# Altium footprint library PCB1_1.PcbLib: 20 footprints (part 1 of 2)
Each footprint in its own frame and in the unit in brackets; x right, y up, seen from the top. Pads: shape width x height; smd on the part's side, far side on the other; paste and mask are expansions set on the pad; w line width, h text height; cw(c..) or ccw(c..) is an arc to the next point about the centre after c.
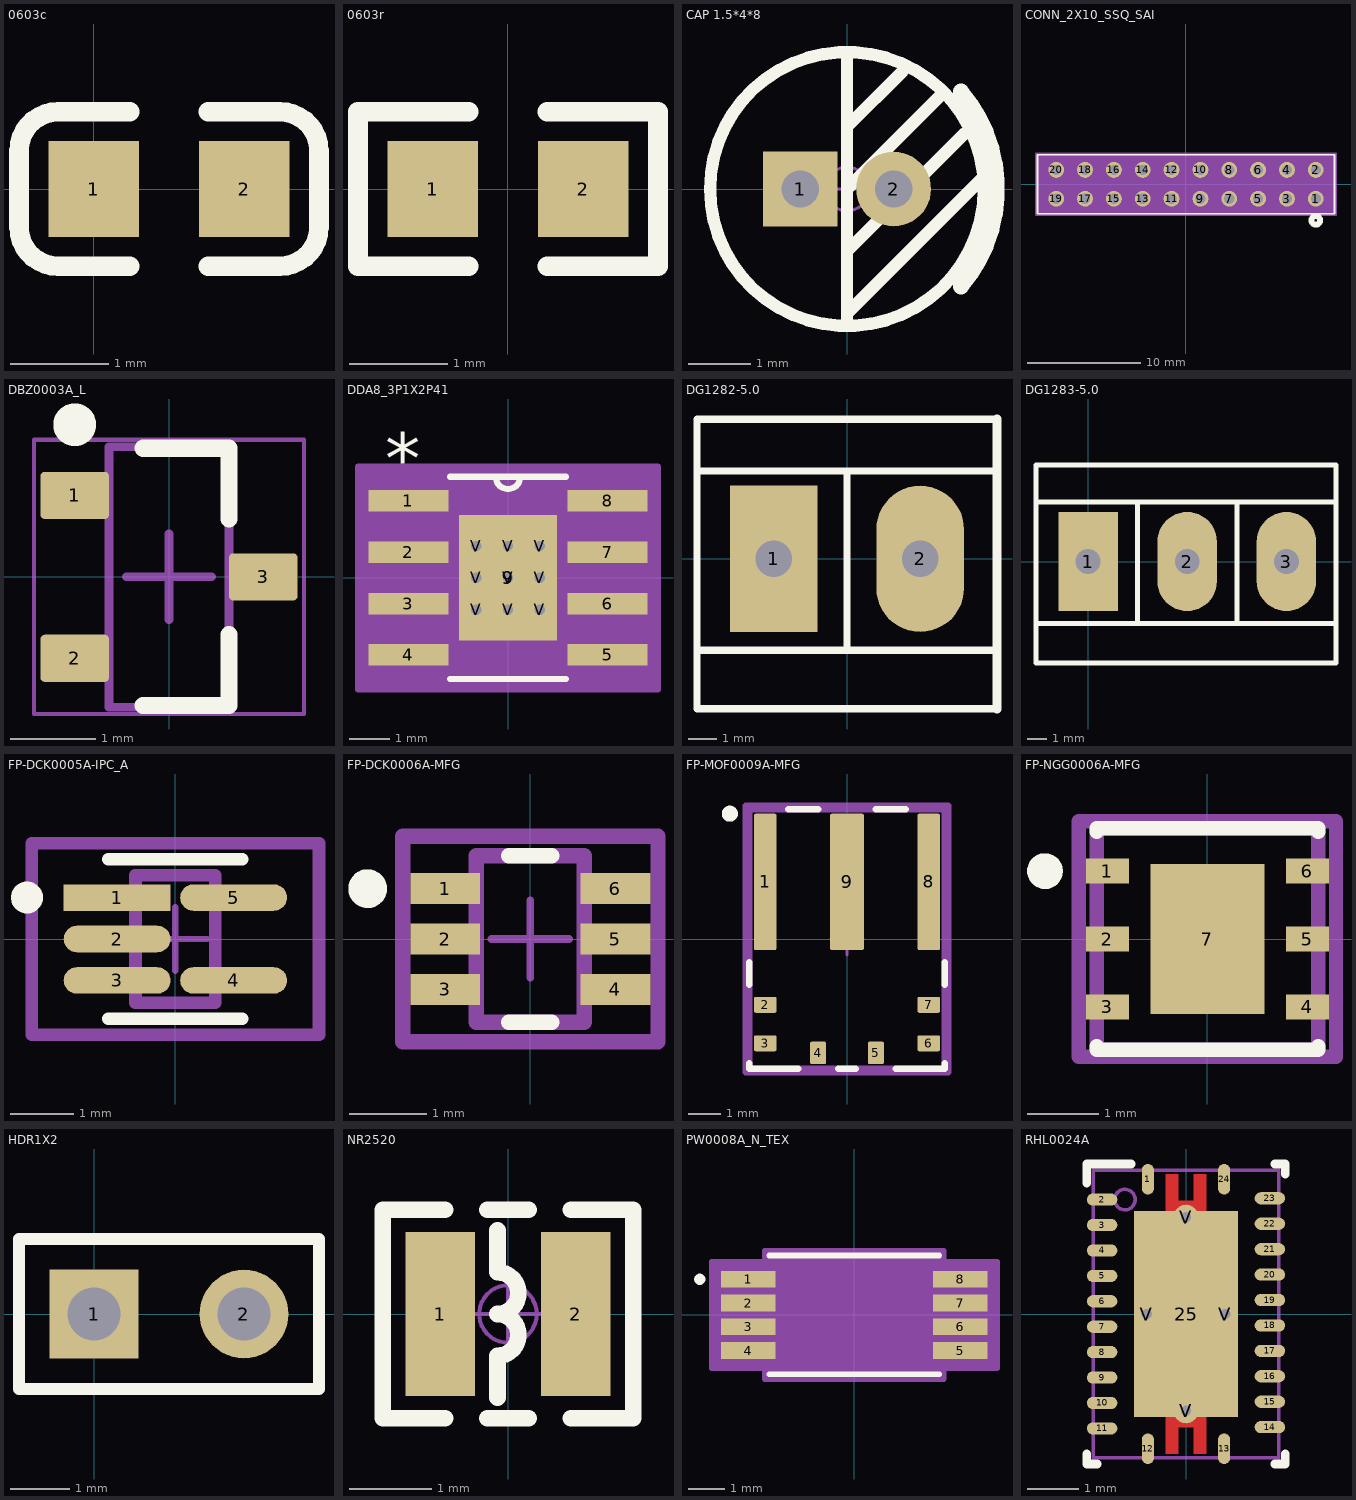
[diagram p0: the footprints below, top view; thin cyan lines are the x and y axes]

## 0603c [mm]
height 0.5
pads (2):
  rect 0.93x0.98 smd: 1(0,0) 2(1.54,0)
Top Overlay:
  lines w0.2: 0.37,-0.79 -0.365,-0.79 cw(c-0.365,-0.39) -0.765,-0.39 -0.765,0.39 cw(c-0.365,0.39) -0.365,0.79 0.37,0.79 ; 1.17,-0.79 1.905,-0.79 ccw(c1.905,-0.39) 2.305,-0.39 2.305,0.39 ccw(c1.905,0.39) 1.905,0.79 1.17,0.79
3D body: height 0.3, standoff 0, extent -0.03,-0.4 1.57,0.4

## 0603r [mm]
height 15
pads (2):
  rect 0.93x0.98 smd: 1(-0.77,0) 2(0.77,0)
Top Overlay:
  lines w0.2: -0.4,-0.79 -1.535,-0.79 -1.535,0.79 -0.4,0.79 ; 0.4,-0.79 1.535,-0.79 1.535,0.79 0.4,0.79
3D body "User Library-RES_1609-0603.STEP": height 0.56, standoff 0, extent -0.85,-0.4 0.85,0.4

## CAP 1.5*4*8 [mm] "脚距1.5mm直径4mm高度8mm                    淘宝ID:黄晶宝石"
pads (2):
  rect 1.2x1.2 hole 0.6: 1(-0.75,0)
  round 1.2 hole 0.6: 2(0.75,0)
Top Overlay:
  circle w0.2: c0,0 r2.2
  lines w0.2: 0,-2.159 0,-2 ; 0,-1 1.897,0.897 ; 0,0 1.524,1.524 ; 0,1 0.897,1.897 ; 0,2.159 0,-2 ; 2.207,0.206 0,-2
  lines w0.254: 1.83,-1.568 ccw(c0,0) 1.83,1.568
Mechanical 15:
  circle w0.05: c0,0 r0.35
  lines w0.05: -0.5,0 0.5,0 ; 0,-0.5 0,0.5
3D body "CAP 1.5X4X8.STEP": height 8.04, standoff -3.46, extent -2,-1.999 2.02,1.999

## CONN_2X10_SSQ_SAI [mil]
pads (20):
  round 55 / inner round 60 / far side round 55 hole 35 paste-99999 mask+0: 1(450,-50) 2(450,50) 3(350,-50) 4(350,50) 5(250,-50) 6(250,50) 7(150,-50) 8(150,50) 9(50,-50) 10(50,50) 11(-50,-50) 12(-50,50) 13(-150,-50) 14(-150,50) 15(-250,-50) 16(-250,50) 17(-350,-50) 18(-350,50) 19(-450,-50) 20(-450,50)
Top Overlay:
  circle w20: c450,-125 r15
  lines w6: -515,-102.5 -515,102.5 515,102.5 515,-102.5 -515,-102.5
Bottom Overlay:
  circle w20: c450,-125 r15
Mechanical 13:
  circle w0: c450,-50 r10
  lines w1: -510,-97.5 -510,97.5 510,97.5 510,-97.5 -510,-97.5
Mechanical 15:
  region: 520,107.5 487.5,107.5 -487.5,107.5 -520,107.5 -520,-107.5 -487.5,-107.5 487.5,-107.5 520,-107.5
  lines w6: -520,-107.5 -487.5,-107.5 487.5,-107.5 520,-107.5 520,107.5 487.5,107.5 -487.5,107.5 -520,107.5 -520,-107.5

## DBZ0003A_L [mm] "SOT23, 3-Leads, Body 3.04x1.4mm, Pitch 0.95mm, IPC High Density"
height 1.12
pads (3):
  rrect18% 0.8x0.55 smd: 1(-1.1,0.95) 2(-1.1,-0.95) 3(1.1,0)
Top Overlay:
  circle w0.25: c-1.1,1.775 r0.125
  lines w0.2: -0.3,-1.5 0.7,-1.5 0.7,-0.675 ; -0.3,1.5 0.7,1.5 0.7,0.675
Mechanical 1:
  text ".Designator" at -0.508,-0.127 h0.35
Mechanical 13:
  lines w0.1: -0.7,-1.52 0.7,-1.52 0.7,1.52 -0.7,1.52 -0.7,-1.52
Mechanical 15:
  lines w0.05: -1.575,-1.6 1.575,-1.6 1.575,1.6 -1.575,1.6 -1.575,-1.6
  lines w0.1: -0.5,0 0.5,0 ; 0,-0.5 0,0.5
3D body "DBZ0003AakaMF03A.stp": height 0.96, standoff -0.02, extent -1.257,-1.461 1.257,1.46

## DDA8_3P1X2P41 [mil]
height 19.68
pads (18):
  rect 78x21 smd paste-39 mask-39: 1(-97,75) 2(-97,25) 3(-97,-25) 4(-97,-75) 5(97,-75) 6(97,-25) 7(97,25) 8(97,75)
  rect 95x122 smd paste-60.5 mask-60.5: 9(0,0)
  round 20 / inner round 60 / far side round 20 hole 10 paste-99999 mask-10: V(-31,-31) V(-31,0) V(-31,31) V(0,-31) V(0,0) V(0,31) V(31,-31) V(31,0) V(31,31)
Top Overlay:
  lines w6: -56.38,-98.5 56.38,-98.5 ; -56.38,98.5 56.38,98.5 ; -12,98.5 ccw(c0,98.5) 12,98.5
  text "*" at -119.5,91 h50
Top Paste:
  drawing of 16 lines, arcs and shapes, not listed
Top Solder:
  region: 38.87,-63.5 38.87,63.5 50,63.5 50,-63.5
  region: 23.13,-63.5 23.13,63.5 7.87,63.5 7.87,-63.5
  region: -7.87,-63.5 -7.87,63.5 -23.13,63.5 -23.13,-63.5
  region: -50,-63.5 -50,63.5 -38.87,63.5 -38.87,-63.5
  region: -50,-63.5 -50,-38.87 50,-38.87 50,-63.5
  region: -50,-23.13 -50,-7.87 50,-7.87 50,-23.13
  region: -50,7.87 -50,23.13 50,23.13 50,7.87
  region: -50,38.87 -50,63.5 50,63.5 50,38.87
Mechanical 13:
  lines w0: -12,98.5 ccw(c0,98.5) 12,98.5
  lines w1: -122,-84.5 -79,-84.5 -79,-65.5 -122,-65.5 -122,-84.5 ; -122,-34.5 -79,-34.5 -79,-15.5 -122,-15.5 -122,-34.5 ; -122,15.5 -79,15.5 -79,34.5 -122,34.5 -122,15.5 ; -122,65.5 -79,65.5 -79,84.5 -122,84.5 -122,65.5 ; -79,-98.5 -79,98.5 79,98.5 79,-98.5 -79,-98.5 ; 79,-84.5 122,-84.5 122,-65.5 79,-65.5 79,-84.5 ; 79,-34.5 122,-34.5 122,-15.5 79,-15.5 79,-34.5 ; 79,15.5 122,15.5 122,34.5 79,34.5 79,15.5 ; 79,65.5 122,65.5 122,84.5 79,84.5 79,65.5
  text "*" at -119.5,91 h50
Mechanical 15:
  region: 146,-108.5 -146,-108.5 -146,108.5 146,108.5
  lines w6: -146,-108.5 146,-108.5 146,108.5 -146,108.5 -146,-108.5
3D body "DDA8_3P1X2P41.step": height 67.09, standoff 0, extent -122.01,-98.5 122.01,98.5

## DG1282-5.0 [mil]
height 19.68
pads (2):
  rect 120x200 hole 50: 1(-100,0)
  oval 120x200 hole 50: 2(100,0)
Top Overlay:
  lines w10: -205,-203 -205,-205 205,-205 ; -205,-200 -205,191 205,191 ; -205,-125 205,-125 ; -205,120 205,120 ; 0,-124 0,120
  lines w12: 205,-205 205,191

## DG1283-5.0 [mil]
height 19.68
pads (3):
  rect 120x200 hole 50: 1(0,0)
  oval 120x200 hole 50: 2(200,0) 3(400,0)
Top Overlay:
  lines w10: -105,-203 -105,-205 500,-205 500,195 -105,195 ; -105,-200 -105,191 ; -105,-125 500,-125 ; -105,120 500,120 ; 100,-124 100,120 ; 300,-125 300,120

## FP-DCK0005A-IPC_A [mm]
height 0.5
pads (5):
  rect 1.677x0.416 smd paste+0 mask+0: 1(-0.914,0.65)
  rrect100% 1.677x0.416 smd paste+0 mask+0: 2(-0.914,0) 3(-0.914,-0.65) 4(0.914,-0.65) 5(0.914,0.65)
Top Overlay:
  circle w0.25: c-2.327,0.65 r0.125
  lines w0.2: -1.05,-1.25 1.05,-1.25 ; -1.05,1.25 1.05,1.25
Top 3D Body:
  lines w0.2: -0.625,-1 -0.625,1 0.625,1 0.625,-1 -0.625,-1
Top Courtyard:
  lines w0.2: -2.252,-1.5 -2.252,1.5 2.252,1.5 2.252,-1.5 -2.252,-1.5
Top Assembly:
  lines w0.2: -2.252,-1.5 -2.252,1.5 2.252,1.5 2.252,-1.5 -2.252,-1.5
  text ".Designator" at 0,0.188 h1
Top Component Center:
  lines w0.1: -0.5,0 0.5,0 ; 0,-0.5 0,0.5

## FP-DCK0006A-MFG [mm]
height 0.5
pads (6):
  rect 0.9x0.4 smd paste-1000 mask+0: 1(-1.1,0.65) 2(-1.1,0) 3(-1.1,-0.65) 4(1.1,-0.65) 5(1.1,0) 6(1.1,0.65)
Top Overlay:
  circle w0.25: c-2.1,0.65 r0.125
  lines w0.2: -0.275,-1.075 0.275,-1.075 ; -0.275,1.075 0.275,1.075
Top Paste:
  rectangle: 0.675,-0.825 1.525,-0.475
  rectangle: 0.675,-0.175 1.525,0.175
  rectangle: 0.675,0.475 1.525,0.825
  rectangle: -1.525,-0.825 -0.675,-0.475
  rectangle: -1.525,-0.175 -0.675,0.175
  rectangle: -1.525,0.475 -0.675,0.825
Top 3D Body:
  lines w0.2: -0.7,-1.075 -0.7,1.075 0.7,1.075 0.7,-1.075 -0.7,-1.075
Top Courtyard:
  lines w0.2: -1.65,-1.325 -1.65,1.325 1.65,1.325 1.65,-1.325 -1.65,-1.325
Top Assembly:
  lines w0.2: -1.65,-1.325 -1.65,1.325 1.65,1.325 1.65,-1.325 -1.65,-1.325
  text ".Designator" at 0,0.188 h1
Top Component Center:
  lines w0.1: -0.5,0 0.5,0 ; 0,-0.5 0,0.5
3D body "IC_Texas_Instruments_INA213AIDCKR_eec.STEP": height 0.25, standoff 0, extent -1.65,-1.325 1.65,1.325

## FP-MOF0009A-MFG [mm]
height 0.5
pads (9):
  rrect14% 0.7x4.25 smd paste-1000 mask+0: 1(-2.55,1.78) 8(2.55,1.78)
  rrect20% 0.7x0.5 smd paste+0 mask+0: 2(-2.55,-2.05) 3(-2.55,-3.25) 6(2.55,-3.25) 7(2.55,-2.05)
  rrect20% 0.5x0.7 smd paste+0 mask+0: 4(-0.9,-3.55) 5(0.9,-3.55)
  rrect10% 1.05x4.25 smd paste-1000 mask+0: 9(0,1.78)
Top Overlay:
  circle w0.25: c-3.65,3.905 r0.125
  lines w0.2: -3.05,-3.875 -3.05,-4.05 -1.525,-4.05 ; -3.05,-1.425 -3.05,-0.72 ; -1.825,4.05 -0.9,4.05 ; -0.275,-4.05 0.275,-4.05 ; 0.9,4.05 1.825,4.05 ; 1.525,-4.05 3.05,-4.05 3.05,-3.875 ; 3.05,-1.425 3.05,-0.72
Top Paste:
  drawing of 15 lines, arcs and shapes, not listed
Top 3D Body:
  lines w0.2: -3.05,-4.05 -3.05,4.05 3.05,4.05 3.05,-4.05 -3.05,-4.05
Top Courtyard:
  lines w0.2: -3.15,-4.15 -3.15,4.15 3.15,4.15 3.15,-4.15 -3.15,-4.15
Top Assembly:
  lines w0.2: -3.15,-4.15 -3.15,4.15 3.15,4.15 3.15,-4.15 -3.15,-4.15
  text ".Designator" at 0,0.188 h1
Top Component Center:
  lines w0.1: -0.5,0 0.5,0 ; 0,-0.5 0,0.5
3D body "IC_Texas_Instruments_LMG5200MOFT_eec.STEP": height 2, standoff 0, extent -3,-4 3,4

## FP-NGG0006A-MFG [mm]
height 0.5
pads (7):
  rect 0.6x0.35 smd paste+0 mask+0: 1(-1.4,0.95) 2(-1.4,0) 3(-1.4,-0.95) 4(1.4,-0.95) 5(1.4,0) 6(1.4,0.95)
  rect 1.6x2.1 smd paste+0 mask+0: 7(0,0)
Top Overlay:
  circle w0.25: c-2.275,0.95 r0.125
  lines w0.2: -1.55,-1.5 -1.55,-1.55 1.55,-1.55 1.55,-1.5 ; -1.55,1.5 -1.55,1.55 1.55,1.55 1.55,1.5
Top 3D Body:
  lines w0.2: -1.55,-1.55 -1.55,1.55 1.55,1.55 1.55,-1.55 -1.55,-1.55
Top Courtyard:
  lines w0.2: -1.8,-1.65 -1.8,1.65 1.8,1.65 1.8,-1.65 -1.8,-1.65
Top Assembly:
  lines w0.2: -1.8,-1.65 -1.8,1.65 1.8,1.65 1.8,-1.65 -1.8,-1.65
  text ".Designator" at 0,0.188 h1
Top Component Center:
  lines w0.1: -0.5,0 0.5,0 ; 0,-0.5 0,0.5
3D body "IC_Texas_Instruments_LP38691SD-3_3-NOPB_eec.STEP": height 0.25, standoff 0, extent -1.8,-1.65 1.8,1.65

## HDR1X2 [mm] "Connector; Header; 2 Position"
height 0.5
pads (2):
  rect 1.5x1.5 hole 0.9: 1(0,0)
  round 1.5 hole 0.9: 2(2.54,0)
Top Overlay:
  lines w0.2: -1.27,-1.27 -1.27,1.27 3.81,1.27 3.81,-1.27 -1.27,-1.27

## NR2520 [mm] "2.5mm*2.0mm*1.0mm(长*宽*高）"
height 0.5
pads (2):
  rect 0.85x2 smd: 1(-0.825,0) 2(0.825,0)
Top Overlay:
  lines w0.203: -0.762,-1.27 -1.524,-1.27 -1.524,1.27 -0.762,1.27 ; -0.254,-1.27 0.254,-1.27 ; -0.254,1.27 0.254,1.27 ; -0.127,-1.016 -0.127,-0.508 ccw(c-0.127,-0.254) -0.127,0 ccw(c-0.127,0.254) -0.127,0.508 -0.127,1.016 ; 0.762,-1.27 1.524,-1.27 1.524,1.27 0.762,1.27
Mechanical 15:
  circle w0.05: c0,0 r0.35
  lines w0.05: -0.5,0 0.5,0 ; 0,-0.5 0,0.5
3D body "NR2520.STEP": height 1.1, standoff 0, extent -1.25,-1 1.25,1

## PW0008A_N_TEX [mm]
height 0.5
pads (8):
  rect 1.499x0.457 smd paste+0 mask+0.051: 1(-2.9,0.975) 2(-2.9,0.325) 3(-2.9,-0.325) 4(-2.9,-0.975) 5(2.9,-0.975) 6(2.9,-0.325) 7(2.9,0.325) 8(2.9,0.975)
Top Overlay:
  circle w0.152: c-4.228,0.975 r0.076
  lines w0.152: -2.324,-1.626 2.324,-1.626 ; -2.324,1.626 2.324,1.626
Mechanical 13:
  circle w0: c-1.943,0.975 r0.076
  lines w0: -0.305,1.499 ccw(c0,1.499) 0.305,1.499
  lines w0.025: -2.197,-1.499 2.197,-1.499 2.197,1.499 -2.197,1.499 -2.197,-1.499
Mechanical 15:
  region: -2.451,-1.458 -3.903,-1.458 -3.903,1.458 -2.451,1.458 -2.451,1.753 2.451,1.753 2.451,1.458 3.903,1.458 3.903,-1.458 2.451,-1.458 2.451,-1.753 -2.451,-1.753
  lines w0.152: -3.903,-1.458 -3.903,1.458 -2.451,1.458 -2.451,1.753 2.451,1.753 2.451,1.458 3.903,1.458 3.903,-1.458 2.451,-1.458 2.451,-1.753 -2.451,-1.753 -2.451,-1.458 -3.903,-1.458
3D body "PW0008A_N_TEX.step": height 1.19, standoff 0, extent -3.299,-1.499 3.299,1.499

## RHL0024A [mm]
height 0.5
pads (29):
  oval 0.24x0.6 smd paste-0.102 mask+0.051: 1(-0.75,2.65) 12(-0.75,-2.65) 13(0.75,-2.65) 24(0.75,2.65)
  oval 0.6x0.24 smd paste-0.102 mask+0.051: 2(-1.65,2.25) 3(-1.65,1.75) 4(-1.65,1.25) 5(-1.65,0.75) 6(-1.65,0.25) 7(-1.65,-0.25) 8(-1.65,-0.75) 9(-1.65,-1.25) 10(-1.65,-1.75) 11(-1.65,-2.25) 14(1.65,-2.225) 15(1.65,-1.725) 16(1.65,-1.225) 17(1.65,-0.725) 18(1.65,-0.225) 19(1.65,0.275) 20(1.65,0.775) 21(1.65,1.275) 22(1.65,1.775) 23(1.65,2.275)
  rect 2.05x4.05 smd paste-2.012 mask+0.051: 25(0,0)
  round 0.5 / inner round 1.524 / far side round 0.5 hole 0.203 paste-2539.97 mask+0.076: V(-0.775,0) V(0.775,0)
  round 0.5 / inner round 1.524 / far side round 0.5 hole 0.203 paste-2539.97 mask+0.051: V(0,-1.9) V(0,1.9)
Top Layer:
  region: -0.395,-2.024 -0.395,-2.225 0.395,-2.225 0.395,-2.024
  region: -0.396,2.75 -0.396,2 -0.154,2 -0.154,2.75
  region: 0.152,2.75 0.152,2 0.394,2 0.394,2.75
  region: -0.395,2.225 -0.395,2.024 0.395,2.024 0.395,2.225
  region: -0.152,-2.75 -0.152,-2 -0.394,-2 -0.394,-2.75
  region: 0.396,-2.75 0.396,-2 0.154,-2 0.154,-2.75
Top Overlay:
  lines w0.17: -1.95,-2.75 -1.95,-2.95 -1.75,-2.95 ; -1.95,2.575 -1.95,2.95 -1.075,2.95 ; 1.75,-2.95 1.95,-2.95 1.95,-2.75 ; 1.75,2.95 1.95,2.95 1.95,2.75
Top Paste:
  region: -0.895,-0.1 -0.895,-1.798 0.894,-1.798 0.894,-0.1
  region: -0.895,1.798 -0.895,0.1 0.894,0.1 0.894,1.798
Top Solder:
  region: -0.446,-1.973 -0.446,-2.276 0.446,-2.276 0.446,-1.973
  region: -0.447,2.801 -0.447,1.949 -0.103,1.949 -0.103,2.801
  region: 0.101,2.801 0.101,1.949 0.445,1.949 0.445,2.801
  region: -0.446,2.276 -0.446,1.973 0.446,1.973 0.446,2.276
  region: -0.101,-2.801 -0.101,-1.949 -0.445,-1.949 -0.445,-2.801
  region: 0.447,-2.801 0.447,-1.949 0.103,-1.949 0.103,-2.801
Mechanical 13:
  circle w0.07: c-1.202,2.25 r0.202
  lines w0.07: -1.825,-2.825 -1.825,2.825 1.825,2.825 1.825,-2.825 -1.825,-2.825